# EAGLE library part LPY530AL (library custom)
Gyro MEMS Analog Output
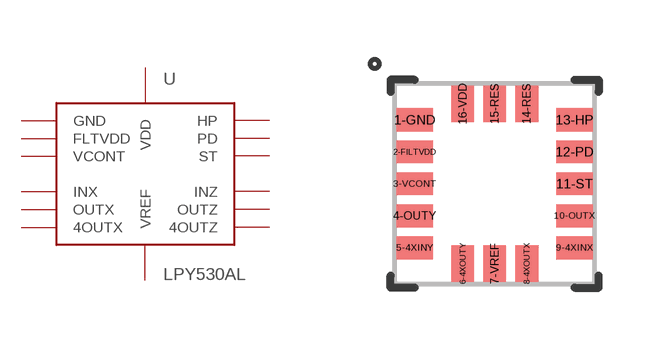
[diagram p14: symbol with the pads of LGA-16; footprint LGA-16]

Designator prefix U

## LPY530AL  [LGA-16]
1-GND  GND
2-FILTVDD  FLTVDD
3-VCONT  VCONT
4-OUTY  INX
5-4XINY  OUTX
6-4XOUTY  4OUTX
7-VREF  VREF
8-4XOUTX  4OUTZ
9-4XINX  OUTZ
10-OUTX  INZ
11-ST  ST
12-PD  PD
13-HP  HP
16-VDD  VDD

## Footprint LGA-16 (pad centres in mm)
smd 0.9 x 0.575: 1-GND -2,1.6; 2-FILTVDD -2,0.8; 3-VCONT -2,0; 4-OUTY -2,-0.8; 5-4XINY -2,-1.6; 9-4XINX 2,-1.6; 10-OUTX 2,-0.8; 11-ST 2,0; 12-PD 2,0.8; 13-HP 2,1.6
smd 0.575 x 0.9: 6-4XOUTY -0.8,-2; 7-VREF 0,-2; 8-4XOUTX 0.8,-2; 14-RES 0.8,2; 15-RES 0,2; 16-VDD -0.8,2